# EAGLE library part MMA8452 (library Supernode-Sensors)
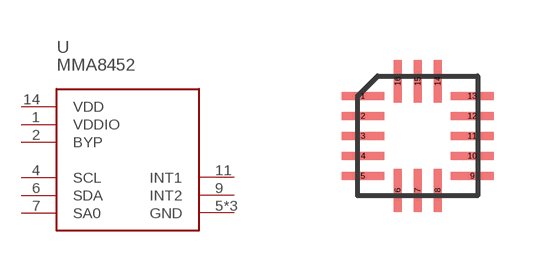
[diagram p4: symbol with the pads of QFN16-PROTOTYPE; footprint QFN16-PROTOTYPE]

Designator prefix U

## MMA8452  [QFN16-PROTOTYPE]
1  VDDIO  pwr
2  BYP  pwr
4  SCL  oc
5  GND  pwr
6  SDA  oc
7  SA0
9  INT2  out
10  GND  pwr
11  INT1  out
12  GND  pwr
14  VDD  pwr

## Footprint QFN16-PROTOTYPE (pad centres in mm)
QFN10 3x3mm package with extra long pads for easier prototyping
smd 1.067 x 0.2: 1 -1.367,1; 2 -1.367,0.5; 3 -1.367,0; 4 -1.367,-0.5; 5 -1.367,-1; 9 1.367,-1; 10 1.367,-0.5; 11 1.367,0; 12 1.367,0.5; 13 1.367,1
smd 0.2 x 1.067: 6 -0.5,-1.367; 7 0,-1.367; 8 0.5,-1.367; 14 0.5,1.367; 15 0,1.367; 16 -0.5,1.367